# Altium schematic symbol library Resistors.SchLib: 221 symbols (part 3 of 3)
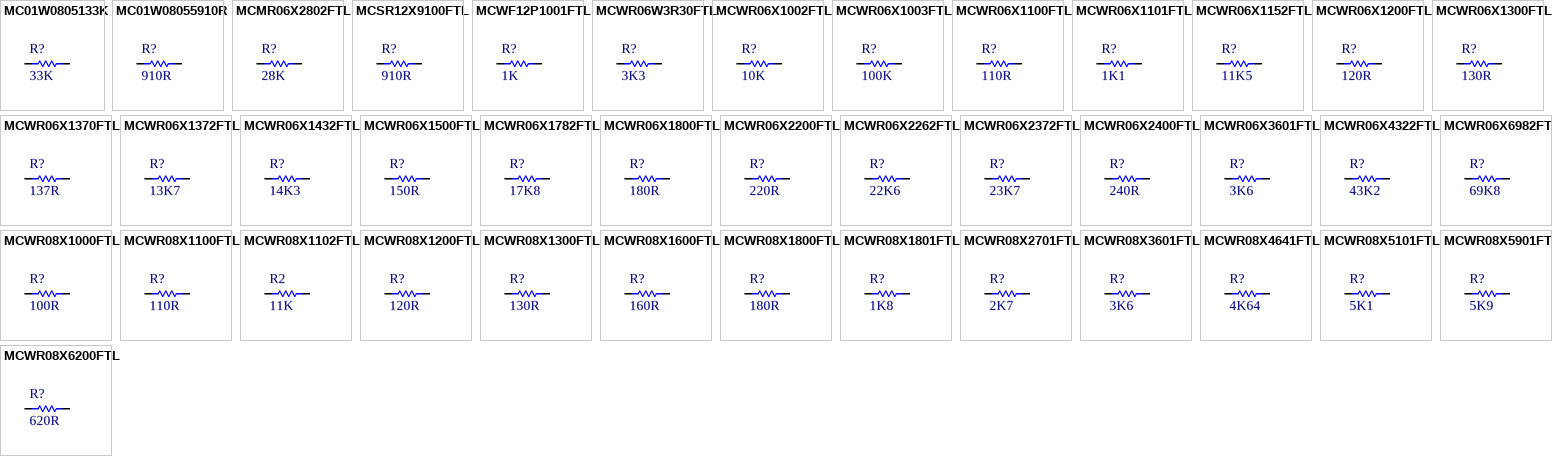
[diagram p7: symbols MC01W0805133K to MCWR08X6200FTL]

## MCWR08X4641FTL
designator R?, comment 4K64
RES 4K64, ±1%, 125mW, 150V, 0805 [2012 Metric], Thick Film; Manufacturer: MULTICOMP PRO; Manufacturer Part Number: MCWR08X4641FTL; Temperature Coefficient: ± 100ppm/°C; Value: 4K64; Supplier 1: Farnell; Supplier Part Number 1: 2447671; Tollerance: ± 1%; Power: 125mW; Voltage: 150V; Package: 0805 [2012 Metric]; Part Type: Thick Film; ComponentLink1Description: Datasheet; ComponentLink1URL: https://lt.farnell.com/multicomp-pro/mcwr08x4641ftl/res-4k64-1-0-125w-thick-film/dp/2447671?st=res%204.64k,%20±1%25,%20125mw,%20150v,%200805%20[2012%20metric],%20thick%20film; Mounting: SMD
footprint RESC2012N (Chip Resistor, Body 2.0x1.3mm, IPC Medium Density)
pins: 1, 2
1 alternate drawing of the same symbol

## MCWR08X5101FTL
designator R?, comment 5K1
RES 5K1, ±1%, 125mW, 0805 [2012 Metric], Thick Film; Manufacturer: MULTICOMP PRO; Manufacturer Part Number: MCWR08X5101FTL; Voltage: 150V; Temperature Coefficient: ± 100ppm/°C; Value: 5K1; Supplier 1: Farnell; Supplier Part Number 1: 2447692; Tolerance: ± 1%; Power: 125mW; Package: 0805 [2012 Metric]; Part Type: Thick Film; ComponentLink1Description: Datasheet; ComponentLink1URL: http://www.farnell.com/datasheets/2563624.pdf; Mounting: SMD
footprint RESC2012N (Chip Resistor, Body 2.0x1.3mm, IPC Medium Density)
pins: 1, 2
1 alternate drawing of the same symbol

## MCWR08X5901FTL
designator R?, comment 5K9
RES 5K9, ±1%, 125mW, 150V, 0805 [2012 Metric], Thick Film; Manufacturer: MULTICOMP PRO; Manufacturer Part Number: MCWR08X5901FTL; Temperature Coefficient: 100ppm/°C; Value: 5K9; Supplier 1: Farnell; Supplier Part Number 1: 2695076; Tollerance: 1%; Power: 125mW; Voltage: 150V; Package: 0805 [2012 Metric]; Part Type: General Purpose; ComponentLink1Description: Datasheet; ComponentLink1URL: https://lt.farnell.com/multicomp/mcwr08x5901ftl/res-5k9-1-0-125w-0805-thick-film/dp/2695076?st=res%205k9,%20±1%25,%20125mw,%20150v,%200805%20[2012%20metric],%20thick%20film; Mounting: SMD
footprint RESC2012N (Chip Resistor, Body 2.0x1.3mm, IPC Medium Density)
pins: 1, 2
1 alternate drawing of the same symbol

## MCWR08X6200FTL
designator R?, comment 620R
RES 620R, ±1%, 125mW, 150V, 0805 [2012 Metric], Thick Film; Manufacturer: MULTICOMP PRO; Manufacturer Part Number: MCWR08X6200FTL; Temperature Coefficient: ± 100ppm/°C; Value: 620R; Supplier 1: Farnell; Supplier Part Number 1: 2447700; Tolerance: ± 1%; Power: 125mW; Voltage: 150V; Package: 0805 [2012 Metric]; Part Type: Thick Film; ComponentLink1Description: Datasheet; ComponentLink1URL: http://www.farnell.com/datasheets/2563624.pdf; Mounting: SMD
footprint RESC2012N (Chip Resistor, Body 2.0x1.3mm, IPC Medium Density)
pins: 1, 2
1 alternate drawing of the same symbol

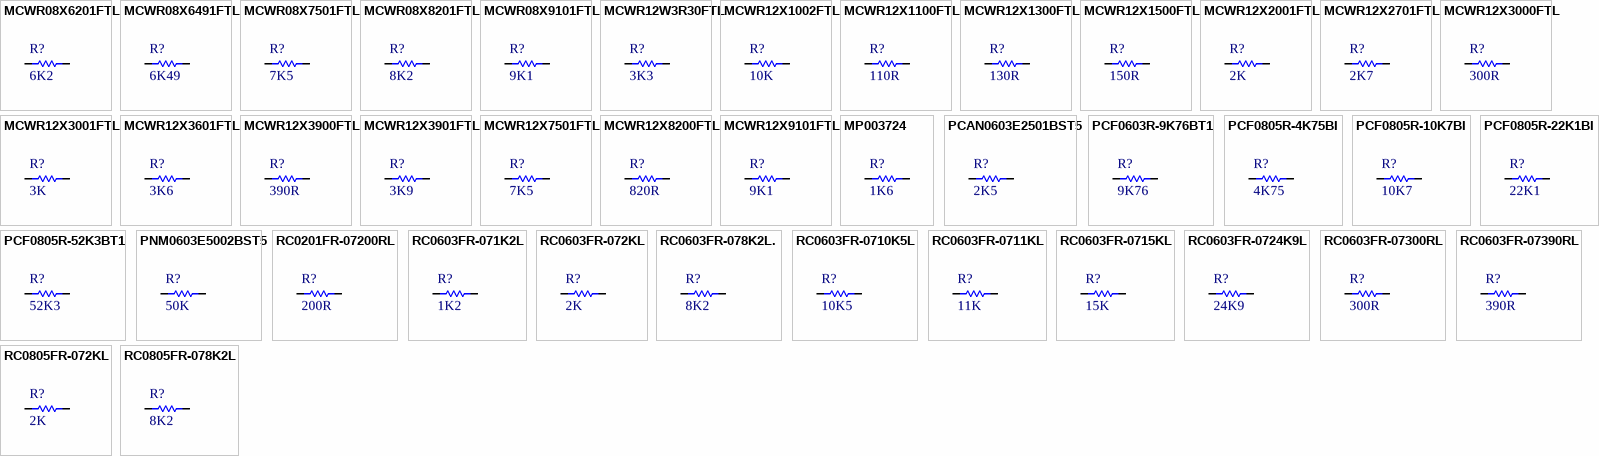
[diagram p4: symbols MCWR08X6201FTL to RC0805FR-078K2L]

## MCWR08X6201FTL
designator R?, comment 6K2
RES 6K2, ±1%, 125mW, 150V, 0805 [2012 Metric], Thick Film; Manufacturer: MULTICOMP PRO; Manufacturer Part Number: MCWR08X6201FTL; Temperature Coefficient: ± 100ppm/°C; Value: 6K2; Supplier 1: Farnell; Supplier Part Number 1: 2447709; Tolerance: ± 1%; Power: 125mW; Voltage: 150V; Package: 0805 [2012 Metric]; Part Type: Thick Film; ComponentLink1Description: Datasheet; ComponentLink1URL: http://www.farnell.com/datasheets/2563624.pdf; Mounting: SMD
footprint RESC2012N (Chip Resistor, Body 2.0x1.3mm, IPC Medium Density)
pins: 1, 2
1 alternate drawing of the same symbol

## MCWR08X6491FTL
designator R?, comment 6K49
RES 6K49, ±1%, 125mW, 150V, 0805 [2012 Metric], Thick Film; Manufacturer: MULTICOMP PRO; Manufacturer Part Number: MCWR08X6491FTL; Temperature Coefficient: ± 100ppm/°C; Value: 6K49; Supplier 1: Farnell; Supplier Part Number 1: 2447710; Tollerance: ± 1%; Power: 125mW; Voltage: 150V; Package: 0805 [2012 Metric]; Part Type: Thick Film; ComponentLink1Description: Datasheet; ComponentLink1URL: https://lt.farnell.com/multicomp-pro/mcwr08x6491ftl/res-6k49-1-0-125w-thick-film/dp/2447710RL?st=res%206.49k,%20±1%25,%20125mw,%20150v,%200805%20[2012%20metric],%20thick%20film; Mounting: SMD
footprint RESC2012N (Chip Resistor, Body 2.0x1.3mm, IPC Medium Density)
pins: 1, 2
1 alternate drawing of the same symbol

## MCWR08X7501FTL
designator R?, comment 7K5
RES 7K5, ±1%, 125mW, 150V, 0805 [2012 Metric], Thick Film; Manufacturer: MULTICOMP PRO; Manufacturer Part Number: MCWR08X7501FTL; Temperature Coefficient: ± 100ppm/°C; Value: 7K5; Supplier 1: Farnell; Supplier Part Number 1: 2447722; Tolerance: ± 1%; Power: 125mW; Voltage: 150V; Package: 0805 [2012 Metric]; Part Type: Thick Film; ComponentLink1Description: Datasheet; ComponentLink1URL: http://www.farnell.com/datasheets/2563624.pdf; Mounting: SMD
footprint RESC2012N (Chip Resistor, Body 2.0x1.3mm, IPC Medium Density)
pins: 1, 2
1 alternate drawing of the same symbol

## MCWR08X8201FTL
designator R?, comment 8K2
RES 8K2, ±1%, 125mW, 150V, 0805 [2012 Metric], Thick Film; Manufacturer: multicompPro; Manufacturer Part Number: MCWR08X8201FTL; Temperature Coefficient: ±100ppm/°C; Value: 8K2; Supplier 1: Farnell; Supplier Part Number 1: 2447732; Tolerance: ± 1%; Power: 125mW; Voltage: 150V; Package: 0805 [2012 Metric]; Part Type: Thick Film; ComponentLink1Description: Datasheet; ComponentLink1URL: https://lt.farnell.com/panasonic/erjp06f1002v/res-10k-1-0-5w-0805-thick-film/dp/1750767; Mounting: SMD
footprint RESC2012N (Chip Resistor, Body 2.0x1.3mm, IPC Medium Density)
pins: 1, 2
1 alternate drawing of the same symbol

## MCWR08X9101FTL
designator R?, comment 9K1
RES 9K1, ±1%, 125mW, 150V, 0805 [2012 Metric], Thick Film; Manufacturer: MULTICOMP PRO; Manufacturer Part Number: MCWR08X9101FTL; Temperature Coefficient: ± 100ppm/°C; Value: 9K1; Supplier 1: Farnell; Supplier Part Number 1: 2447739; Tolerance: ± 1%; Power: 125mW; Voltage: 150V; Package: 0805 [2012 Metric]; Part Type: Thick Film; ComponentLink1Description: Datasheet; ComponentLink1URL: http://www.farnell.com/datasheets/2563624.pdf; Mounting: SMD
footprint RESC2012N (Chip Resistor, Body 2.0x1.3mm, IPC Medium Density)
pins: 1, 2
1 alternate drawing of the same symbol

## MCWR12W3R30FTL
designator R?, comment 3K3
RES 3K3, ±1%, 250mW, 200V, 1206 [3216 Metric], Thick Film; Manufacturer: MULTICOMP PRO; Manufacturer Part Number: MCWR12W3R30FTL; Temperature Coefficient: ± 200ppm/°C; Value: 3K3; Supplier 1: Farnell; Supplier Part Number 1: 2695112; Tolerance: ± 1%; Power: 250mW; Voltage: 200V; Package: 1206 [3216 Metric]; Part Type: Thick Film; ComponentLink1Description: Datasheet; ComponentLink1URL: http://www.farnell.com/datasheets/2189593.pdf; Mounting: SMD
footprint RESC3216N (Chip Resistor, Body 3.2x1.6mm, IPC Medium Density)
pins: 1, 2
1 alternate drawing of the same symbol

## MCWR12X1002FTL
designator R?, comment 10K
RES 10K, ±1%, 250mW, 200V, 1206 [3216 Metric], Thick Film; Manufacturer: MULTICOMP PRO; Manufacturer Part Number: MCWR12X1002FTL; Temperature Coefficient: ± 100ppm/°C; Value: 10K; Supplier 1: Farnell; Supplier Part Number 1: 2447455; Tolerance: ± 1%; Power: 250mW; Voltage: 200V; Package: 1206 [3216 Metric]; Part Type: Thick Film; ComponentLink1Description: Datasheet; ComponentLink1URL: http://www.farnell.com/datasheets/2563624.pdf; Mounting: SMD
footprint RESC3216N (Chip Resistor, Body 3.2x1.6mm, IPC Medium Density)
pins: 1, 2
1 alternate drawing of the same symbol

## MCWR12X1100FTL
designator R?, comment 110R
RES 110R, ±1%, 250mW, 200V, 1206 [3216 Metric], Thick Film; Manufacturer: MULTICOMP PRO; Manufacturer Part Number: MCWR12X1100FTL; Temperature Coefficient: ± 100ppm/°C; Value: 110R; Supplier 1: Farnell; Supplier Part Number 1: 2447459; Tolerance: ± 1%; Power: 250mW; Voltage: 200V; Package: 1206 [3216 Metric]; Part Type: Thick Film; ComponentLink1Description: Datasheet; ComponentLink1URL: http://www.farnell.com/datasheets/2563624.pdf; Mounting: SMD
footprint RESC3216N (Chip Resistor, Body 3.2x1.6mm, IPC Medium Density)
pins: 1, 2
1 alternate drawing of the same symbol

## MCWR12X1300FTL
designator R?, comment 130R
RES 130R, ±1%, 200mW, 200V, 1206 [3216 Metric], Thick Film; Manufacturer: MULTICOMP PRO; Manufacturer Part Number: MCWR12X1300FTL; Power: 250mW; Temperature Coefficient: ± 100ppm/°C; Value: 130R; Supplier 1: Farnell; Supplier Part Number 1: 2447464; Tolerance: ± 1%; Voltage: 200V; Package: 1206 [3216 Metric]; Part Type: Thick Film; ComponentLink1Description: Datasheet; ComponentLink1URL: http://www.farnell.com/datasheets/2563624.pdf; Mounting: SMD
footprint RESC3216N (Chip Resistor, Body 3.2x1.6mm, IPC Medium Density)
pins: 1, 2
1 alternate drawing of the same symbol

## MCWR12X1500FTL
designator R?, comment 150R
RES 150R, ±1%, 250mW, 200V, 1206 [3216 Metric], Thick Film; Manufacturer: MULTICOMP PRO; Manufacturer Part Number: MCWR12X1500FTL; Temperature Coefficient: ± 100ppm/°C; Value: 150R; Supplier 1: Farnell; Supplier Part Number 1: 2447466; Tolerance: ± 1%; Power: 250mW; Voltage: 200V; Package: 1206 [3216 Metric]; Part Type: Thick Film; ComponentLink1Description: Datasheet; ComponentLink1URL: http://www.farnell.com/datasheets/2563624.pdf; Mounting: SMD
footprint RESC3216N (Chip Resistor, Body 3.2x1.6mm, IPC Medium Density)
pins: 1, 2
1 alternate drawing of the same symbol

## MCWR12X2001FTL
designator R?, comment 2K
RES 2K, ±1%, 250mW, 200V, 1206 [3216 Metric], Thick Film; Manufacturer: MULTICOMP PRO; Manufacturer Part Number: MCWR12X2001FTL; Temperature Coefficient: ± 100ppm/°C; Value: 2K; Supplier 1: Farnell; Supplier Part Number 1: 2447495; Tolerance: ± 1%; Power: 250mW; Voltage: 200V; Package: 1206 [3216 Metric]; Part Type: Thick Film; ComponentLink1Description: Datasheet; ComponentLink1URL: http://www.farnell.com/datasheets/2563624.pdf; Mounting: SMD
footprint RESC3216N (Chip Resistor, Body 3.2x1.6mm, IPC Medium Density)
pins: 1, 2
1 alternate drawing of the same symbol

## MCWR12X2701FTL
designator R?, comment 2K7
RES 2K7, ±1%, 250mW, 200V, 1206 [3216 Metric], Thick Film; Manufacturer: MULTICOMP PRO; Manufacturer Part Number: MCWR12X2701FTL; Temperature Coefficient: ± 100ppm/°C; Value: 2K7; Supplier 1: Farnell; Supplier Part Number 1: 2447497; Tolerance: ± 1%; Power: 250mW; Voltage: 200V; Package: 1206 [3216 Metric]; Part Type: Thick Film; ComponentLink1Description: Datasheet; ComponentLink1URL: http://www.farnell.com/datasheets/2563624.pdf; Mounting: SMD
footprint RESC3216N (Chip Resistor, Body 3.2x1.6mm, IPC Medium Density)
pins: 1, 2
1 alternate drawing of the same symbol

## MCWR12X3000FTL
designator R?, comment 300R
RES 300R, ±1%, 250mW, 200V, 1206 [3216 Metric], Thick Film; Manufacturer: MULTICOMP PRO; Manufacturer Part Number: MCWR12X3000FTL; Temperature Coefficient: ± 100ppm/°C; Value: 300R; Supplier 1: Farnell; Supplier Part Number 1: 2447501; Tolerance: ± 1%; Power: 250mW; Voltage: 200V; Package: 1206 [3216 Metric]; Part Type: Thick Film; ComponentLink1Description: Datasheet; ComponentLink1URL: http://www.farnell.com/datasheets/2563624.pdf; Mounting: SMD
footprint RESC3216N (Chip Resistor, Body 3.2x1.6mm, IPC Medium Density)
pins: 1, 2
1 alternate drawing of the same symbol

## MCWR12X3001FTL
designator R?, comment 3K
RES 3K, ±1%, 250mW, 200V, 1206 [3216 Metric], Thick Film; Manufacturer: MULTICOMP PRO; Manufacturer Part Number: MCWR12X3001FTL; Temperature Coefficient: ± 100ppm/°C; Value: 3K; Supplier 1: Farnell; Supplier Part Number 1: 2447513; Tolerance: ± 1%; Power: 250mW; Voltage: 200V; Package: 1206 [3216 Metric]; Part Type: Thick Film; ComponentLink1Description: Datasheet; ComponentLink1URL: http://www.farnell.com/datasheets/2563624.pdf; Mounting: SMD
footprint RESC3216N (Chip Resistor, Body 3.2x1.6mm, IPC Medium Density)
pins: 1, 2
1 alternate drawing of the same symbol

## MCWR12X3601FTL
designator R?, comment 3K6
RES 3K6, ±1%, 250mW, 200V, 1206 [3216 Metric], Thick Film; Manufacturer: MULTICOMP PRO; Manufacturer Part Number: MCWR12X3601FTL; Temperature Coefficient: ± 100ppm/°C; Value: 3K6; Supplier 1: Farnell; Supplier Part Number 1: 2447515; Tolerance: ± 1%; Power: 250mW; Voltage: 200V; Package: 1206 [3216 Metric]; Part Type: Thick Film; ComponentLink1Description: Datasheet; ComponentLink1URL: http://www.farnell.com/datasheets/2563624.pdf; Mounting: SMD
footprint RESC3216N (Chip Resistor, Body 3.2x1.6mm, IPC Medium Density)
pins: 1, 2
1 alternate drawing of the same symbol

## MCWR12X3900FTL
designator R?, comment 390R
RES 390R, ±1%, 250mW, 1206 [3216 Metric], Thick Film; Manufacturer: MULTICOMP PRO; Manufacturer Part Number: MCWR12X3900FTL; Voltage: 200V; Temperature Coefficient: ± 100ppm/°C; Value: 390R; Supplier 1: Farnell; Supplier Part Number 1: 2447510; Tolerance: ± 1%; Power: 250mW; Package: 1206 [3216 Metric]; Part Type: Thick Film; ComponentLink1Description: Datasheet; ComponentLink1URL: http://www.farnell.com/datasheets/2563624.pdf; Mounting: SMD
footprint RESC3216N (Chip Resistor, Body 3.2x1.6mm, IPC Medium Density)
pins: 1, 2
1 alternate drawing of the same symbol

## MCWR12X3901FTL
designator R?, comment 3K9
RES 3K9, ±1%, 250mW, 200V, 1206 [3216 Metric], Thick Film; Manufacturer: MULTICOMP PRO; Manufacturer Part Number: MCWR12X3901FTL; Temperature Coefficient: ± 100ppm/°C; Value: 3K9; Supplier 1: Farnell; Supplier Part Number 1: 2447516; Tolerance: ± 1%; Power: 250mW; Voltage: 200V; Package: 1206 [3216 Metric]; Part Type: Thick Film; ComponentLink1Description: Datasheet; ComponentLink1URL: http://www.farnell.com/datasheets/2563624.pdf; Mounting: SMD
footprint RESC3216N (Chip Resistor, Body 3.2x1.6mm, IPC Medium Density)
pins: 1, 2
1 alternate drawing of the same symbol

## MCWR12X7501FTL
designator R?, comment 7K5
RES 7K5, ±1%, 250mW, 200V, 1206 [3216 Metric], Thick Film; Manufacturer: MULTICOMP PRO; Manufacturer Part Number: MCWR12X7501FTL; Temperature Coefficient: ± 100ppm/°C; Value: 7K5; Supplier 1: Farnell; Supplier Part Number 1: 2447543; Tolerance: ± 1%; Power: 250mW; Voltage: 200V; Package: 1206 [3216 Metric]; Part Type: Thick Film; ComponentLink1Description: Datasheet; ComponentLink1URL: http://www.farnell.com/datasheets/2563624.pdf; Mounting: SMD
footprint RESC3216N (Chip Resistor, Body 3.2x1.6mm, IPC Medium Density)
pins: 1, 2
1 alternate drawing of the same symbol

## MCWR12X8200FTL
designator R?, comment 820R
RES 820R, ±1%, 250mW, 200V, 1206 [3216 Metric], Thick Film; Manufacturer: MULTICOMP PRO; Manufacturer Part Number: MCWR12X8200FTL; Temperature Coefficient: ± 100ppm/°C; Value: 820R; Supplier 1: Farnell; Supplier Part Number 1: 2447544; Tolerance: ± 1%; Power: 250mW; Voltage: 200V; Package: 1206 [3216 Metric]; Part Type: Thick Film; ComponentLink1Description: Datasheet; ComponentLink1URL: http://www.farnell.com/datasheets/2563624.pdf; Mounting: SMD
footprint RESC3216N (Chip Resistor, Body 3.2x1.6mm, IPC Medium Density)
pins: 1, 2
1 alternate drawing of the same symbol

## MCWR12X9101FTL
designator R?, comment 9K1
RES 9K1, ±1%, 250mW, 200V, 1206 [3216 Metric], Thick Film; Manufacturer: MULTICOMP PRO; Manufacturer Part Number: MCWR12X9101FTL; Temperature Coefficient: ± 100ppm/°C; Value: 9K1; Supplier 1: Farnell; Supplier Part Number 1: 2447549; Tolerance: ± 1%; Power: 250mW; Voltage: 200V; Package: 1206 [3216 Metric]; Part Type: Thick Film; ComponentLink1Description: Datasheet; ComponentLink1URL: http://www.farnell.com/datasheets/2563624.pdf; Mounting: SMD
footprint RESC3216N (Chip Resistor, Body 3.2x1.6mm, IPC Medium Density)
pins: 1, 2
1 alternate drawing of the same symbol

## MP003724
designator R?, comment 1K6
RES 1K6, ±1%, 250mW, 200V, 1206 [3216 Metric], Thick Film; Manufacturer: MULTICOMP PRO; Manufacturer Part Number: MP003724; Temperature Coefficient: ± 100ppm/°C; Value: 1K6; Supplier 1: Farnell; Supplier Part Number 1: 3392921; Tolerance: ± 1%; Power: 250mW; Voltage: 200V; Package: 1206 [3216 Metric]; Part Type: Thick Film; ComponentLink1Description: Datasheet; ComponentLink1URL: http://www.farnell.com/datasheets/2921245.pdf; Mounting: SMD
footprint RESC3216N (Chip Resistor, Body 3.2x1.6mm, IPC Medium Density)
pins: 1, 2
1 alternate drawing of the same symbol

## PCAN0603E2501BST5
designator R?, comment 2K5
RES 2K5, ±0.1%, 500mW, 0603 [1608 Metric], Thin Film; Manufacturer: VISHAY; Manufacturer Part Number: PCAN0603E2501BST5; Power: 100mW; Voltage: 75V; Temperature Coefficient: ± 25ppm/°C; Value: 2K5; Supplier 1: Farnell; Supplier Part Number 1: 3596737; Tolerance: ± 0.1%; Package: 0603 [1608 Metric]; Part Type: Thin Film; ComponentLink1Description: Datasheet; ComponentLink1URL: http://www.farnell.com/datasheets/3169822.pdf; Mounting: SMD
footprint RESC1608N (Chip Resistor, Body 1.6x0.8mm, IPC Medium Density)
pins: 1, 2
1 alternate drawing of the same symbol

## PCF0603R-9K76BT1
designator R?, comment 9K76
RES 9K76, ±1%, 62.5mW, 50V, 0603 [1608 Metric], Thick Film; Manufacturer: TT ELECTRONICS / WELWYN; Manufacturer Part Number: PCF0603R-9K76BT1; Temperature Coefficient: ± 25ppm/K; Value: 9K76; Supplier 1: Farnell; Supplier Part Number 1: 1160358; Tolerance: ± 1%; Power: 62.5mW; Voltage: 50V; Package: 0603 [1608 Metric]; Part Type: Thin Film; ComponentLink1Description: Datasheet; ComponentLink1URL: http://www.farnell.com/datasheets/2710384.pdf; Mounting: SMD
footprint RESC1608N (Chip Resistor, Body 1.6x0.8mm, IPC Medium Density)
pins: 1, 2
1 alternate drawing of the same symbol

## PCF0805R-4K75BI
designator R?, comment 4K75
RES 4K75, ±0.1%, 100mW, 100V, 0805 [2012 Metric], Thin Film; Manufacturer: TT ELECTRONICS / WELWYN; Manufacturer Part Number: PCF0805R-4K75BI; Temperature Coefficient: ± 10ppm/°C; Value: 4K75; Supplier 1: Farnell; Supplier Part Number 1: 1160179; Tolerance: ± 0.1%; Power: 100mW; Voltage: 100V; Package: 0805 [2012 Metric]; Part Type: Thin Film; ComponentLink1Description: Datasheet; ComponentLink1URL: http://www.farnell.com/datasheets/2710384.pdf; Mounting: SMD
footprint RESC2012N (Chip Resistor, Body 2.0x1.3mm, IPC Medium Density)
pins: 1, 2
1 alternate drawing of the same symbol

## PCF0805R-10K7BI
designator R?, comment 10K7
RES 10K7, ±0.1%, 100mW, 100V, 0805 [2012 Metric], Thin Film; Manufacturer: TT ELECTRONICS / WELWYN; Manufacturer Part Number: PCF0805R-10K7BI; Temperature Coefficient: ± 25ppm/°C; Value: 10K7; Supplier 1: Farnell; Supplier Part Number 1: 1160207; Tolerance: ± 0.1%; Power: 100mW; Voltage: 100V; Package: 0805 [2012 Metric]; Part Type: Thin Film; ComponentLink1Description: Datasheet; ComponentLink1URL: http://www.farnell.com/datasheets/2710384.pdf; Mounting: SMD
footprint RESC2012N (Chip Resistor, Body 2.0x1.3mm, IPC Medium Density)
pins: 1, 2
1 alternate drawing of the same symbol

## PCF0805R-22K1BI
designator R?, comment 22K1
RES 22K1, ±0.1%, 100mW, 100V, 0805 [2012 Metric], Thin Film; Manufacturer: TT ELECTRONICS / WELWYN; Manufacturer Part Number: PCF0805R-22K1BI; Temperature Coefficient: ± 25ppm/°C; Value: 22K1; Supplier 1: Farnell; Supplier Part Number 1: 1160222; Tolerance: ± 0.1%; Power: 100mW; Voltage: 100V; Package: 0805 [2012 Metric]; Part Type: Thin Film; ComponentLink1Description: Datasheet; ComponentLink1URL: http://www.farnell.com/datasheets/2710384.pdf; Mounting: SMD
footprint RESC2012N (Chip Resistor, Body 2.0x1.3mm, IPC Medium Density)
pins: 1, 2
1 alternate drawing of the same symbol

## PCF0805R-52K3BT1
designator R?, comment 52K3
RES 52K3, ±1%, 100mW, 100V, 0805 [2012 Metric], Thick Film; Manufacturer: TT ELECTRONICS / WELWYN; Manufacturer Part Number: PCF0805R-52K3BT1; Temperature Coefficient: ± 25ppm/°C; Value: 52K3; Supplier 1: Farnell; Supplier Part Number 1: 1353285; Tolerance: ± 1%; Power: 100mW; Voltage: 100V; Package: 0805 [2012 Metric]; Part Type: Thin Film; ComponentLink1Description: Datasheet; ComponentLink1URL: http://www.farnell.com/datasheets/2710384.pdf; Mounting: SMD
footprint RESC2012N (Chip Resistor, Body 2.0x1.3mm, IPC Medium Density)
pins: 1, 2
1 alternate drawing of the same symbol

## PNM0603E5002BST5
designator R?, comment 50K
RES 50K, ±0.1%, 150mW, 75V, 0603 [1608 Metric], Thin Film; Manufacturer: VISHAY; Manufacturer Part Number: PNM0603E5002BST5; Temperature Coefficient: ± 25ppm/°C; Value: 50K; Supplier 1: Farnell; Supplier Part Number 1: 1857219; Tollerance: ± 0.1%; Power: 150mW; Voltage: 75V; Package: 0603 [1608 Metric]; Part Type: Thin Film; ComponentLink1Description: Datasheet; ComponentLink1URL: http://www.farnell.com/datasheets/2050300.pdf; Mounting: SMD
footprint RESC1608N (Chip Resistor, Body 1.6x0.8mm, IPC Medium Density)
pins: 1, 2
1 alternate drawing of the same symbol

## RC0201FR-07200RL
designator R?, comment 200R
RES 200R, ±1%, 50mW, 25V, 0603 [1608 Metric], Thick Film; Manufacturer: YAGEO; Manufacturer Part Number: RC0201FR-07200RL; Temperature Coefficient: ± 200ppm/°C; Value: 200R; Supplier 1: Farnell; Supplier Part Number 1: 3495422; Tolerance: ± 1%; Power: 50mW; Voltage: 25V; Package: 0603 [1608 Metric]; Part Type: Thick Film; ComponentLink1Description: Datasheet; ComponentLink1URL: http://www.farnell.com/datasheets/3046031.pdf; Mounting: SMD
footprint RESC1608N (Chip Resistor, Body 1.6x0.8mm, IPC Medium Density)
pins: 1, 2
1 alternate drawing of the same symbol

## RC0603FR-071K2L
designator R?, comment 1K2
RES 1K2, ±1%, 125mW, 75V, 0603 [1608 Metric], Thick Film; Manufacturer: YAGEO; Manufacturer Part Number: RC0603FR-071K2L; Power: 100mW; Temperature Coefficient: ± 150ppm/°C; Value: 1K2; Supplier 1: Farnell; Supplier Part Number 1: 2693663; Tolerance: ± 1%; Voltage: 75V; Package: 0603 [1608 Metric]; Part Type: Thick Film; ComponentLink1Description: Datasheet; ComponentLink1URL: http://www.farnell.com/datasheets/1868787.pdf; Mounting: SMD
footprint RESC1608N (Chip Resistor, Body 1.6x0.8mm, IPC Medium Density)
pins: 1, 2
1 alternate drawing of the same symbol

## RC0603FR-072KL
designator R?, comment 2K
RES 2K, ±1%, 100mW, 75V, 0603 [1608 Metric], Thick Film; Manufacturer: YAGEO; Manufacturer Part Number: RC0603FR-072KL; Temperature Coefficient: ± 100ppm/°C; Value: 2K; Supplier 1: Farnell; Supplier Part Number 1: 3495801; Tolerance: ± 1%; Power: 100mW; Voltage: 75V; Package: 0603 [1608 Metric]; Part Type: Thick Film; ComponentLink1Description: Datasheet; ComponentLink1URL: http://www.farnell.com/datasheets/3046031.pdf; Mounting: SMD
footprint RESC1608N (Chip Resistor, Body 1.6x0.8mm, IPC Medium Density)
pins: 1, 2
1 alternate drawing of the same symbol

## RC0603FR-078K2L.
designator R?, comment 8K2
RES 8K2, ±1%, 100mW, 75, 0603 [1608 Metric], Thick Film; Manufacturer: YAGEO; Manufacturer Part Number: RC0603FR-078K2L.; Voltage: 75V; Temperature Coefficient: ± 100ppm/°C; Value: 8K2; Supplier 1: Farnell; Supplier Part Number 1: 9238590; Tolerance: ± 1%; Power: 100mW; Package: 0603 [1608 Metric]; Part Type: Thick Film; ComponentLink1Description: Datasheet; ComponentLink1URL: http://www.farnell.com/datasheets/2167052.pdf; Mounting: SMD
footprint RESC1608N (Chip Resistor, Body 1.6x0.8mm, IPC Medium Density)
pins: 1, 2
1 alternate drawing of the same symbol

## RC0603FR-0710K5L
designator R?, comment 10K5
RES 10K5, ±1%, 100mW, 75V, 0603 [1608 Metric], Thick Film; Manufacturer: YAGEO; Manufacturer Part Number: RC0603FR-0710K5L; Temperature Coefficient: ± 100ppm/°C; Value: 10K5; Supplier 1: Farnell; Supplier Part Number 1: 3495722; Tolerance: ± 1%; Power: 100mW; Voltage: 75V; Package: 0603 [1608 Metric]; Part Type: Thick Film; ComponentLink1Description: Datasheet; ComponentLink1URL: http://www.farnell.com/datasheets/3046031.pdf; Mounting: SMD
footprint RESC1608N (Chip Resistor, Body 1.6x0.8mm, IPC Medium Density)
pins: 1, 2
1 alternate drawing of the same symbol

## RC0603FR-0711KL
designator R?, comment 11K
RES 11K, ±1%, 100mW, 75V, 0603 [1608 Metric], Thick Film; Manufacturer: YAGEO; Manufacturer Part Number: RC0603FR-0711KL; Temperature Coefficient: ± 100ppm/°C; Value: 11K; Supplier 1: Farnell; Supplier Part Number 1: 3495727; Tolerance: ± 1%; Power: 100mW; Voltage: 75V; Package: 0603 [1608 Metric]; Part Type: Thick Film; ComponentLink1Description: Datasheet; ComponentLink1URL: http://www.farnell.com/datasheets/3046031.pdf; Mounting: SMD
footprint RESC1608N (Chip Resistor, Body 1.6x0.8mm, IPC Medium Density)
pins: 1, 2
1 alternate drawing of the same symbol

## RC0603FR-0715KL
designator R?, comment 15K
RES 15K, ±1%, 100mW, 0603 [1608 Metric], Thick Film; Manufacturer: YAGEO; Manufacturer Part Number: RC0603FR-0715KL; Voltage: 75V; Temperature Coefficient: ± 100ppm/°C; Value: 15K; Supplier 1: Farnell; Supplier Part Number 1: 3495741; Tolerance: ± 1%; Power: 100mW; Package: 0603 [1608 Metric]; Part Type: Thick Film; ComponentLink1Description: Datasheet; ComponentLink1URL: http://www.farnell.com/datasheets/3046031.pdf; Mounting: SMD
footprint RESC1608N (Chip Resistor, Body 1.6x0.8mm, IPC Medium Density)
pins: 1, 2
1 alternate drawing of the same symbol

## RC0603FR-0724K9L
designator R?, comment 24K9
RES 24K9, ±1%, 100mW, 75V, 0603 [1608 Metric], Thick Film; Manufacturer: YAGEO; Manufacturer Part Number: RC0603FR-0724K9L; Temperature Coefficient: ± 100ppm/°C; Value: 24K9; Supplier 1: Farnell; Supplier Part Number 1: 3495781; Tolerance: ± 1%; Power: 100mW; Voltage: 75V; Package: 0603 [1608 Metric]; Part Type: Thick Film; ComponentLink1Description: Datasheet; ComponentLink1URL: http://www.farnell.com/datasheets/3046031.pdf; Mounting: SMD
footprint RESC1608N (Chip Resistor, Body 1.6x0.8mm, IPC Medium Density)
pins: 1, 2
1 alternate drawing of the same symbol

## RC0603FR-07300RL
designator R?, comment 300R
RES 300R, ±1%, 100mW, 75V, 0603 [1608 Metric], Thick Film; Manufacturer: Yageo; Manufacturer Part Number: RC0603FR-07300RL; Temperature Coefficient: ± 100ppm/°C; Value: 300R; Supplier 1: Farnell; Supplier Part Number 1: 3495806; Tolerance: ± 1%; Power: 100mW; Voltage: 75V; Package: 0603 [1608 Metric]; Part Type: Thick Film; ComponentLink1Description: Datasheet; ComponentLink1URL: http://www.farnell.com/datasheets/3046031.pdf; Mounting: SMD
footprint RESC1608N (Chip Resistor, Body 1.6x0.8mm, IPC Medium Density)
pins: 1, 2
1 alternate drawing of the same symbol

## RC0603FR-07390RL
designator R?, comment 390R
RES 390R, ±1%, 100mW, 0603 [1608 Metric], Thick Film; Manufacturer: YAGEO; Manufacturer Part Number: RC0603FR-07390RL; Voltage: 75V; Temperature Coefficient: ± 100ppm/°C; Value: 390R; Supplier 1: Farnell; Supplier Part Number 1: 9238433; Tolerance: ± 1%; Power: 100mW; Package: 0603 [1608 Metric]; Part Type: Thick Film; ComponentLink1Description: Datasheet; ComponentLink1URL: http://www.farnell.com/datasheets/1868787.pdf; Mounting: SMD
footprint RESC1608N (Chip Resistor, Body 1.6x0.8mm, IPC Medium Density)
pins: 1, 2
1 alternate drawing of the same symbol

## RC0805FR-072KL
designator R?, comment 2K
RES 2K, ±1%, 125mW, 150V, 0805 [2012 Metric], Thick Film; Manufacturer: YAGEO; Manufacturer Part Number: RC0805FR-072KL; Temperature Coefficient: ± 100ppm/°C; Value: 2K; Supplier 1: Farnell; Supplier Part Number 1: 3496020; Tolerance: ± 1%; Power: 125mW; Voltage: 150V; Package: 0805 [2012 Metric]; Part Type: Thick Film; ComponentLink1Description: Datasheet; ComponentLink1URL: http://www.farnell.com/datasheets/3046031.pdf; Mounting: SMD
footprint RESC2012N (Chip Resistor, Body 2.0x1.3mm, IPC Medium Density)
pins: 1, 2
1 alternate drawing of the same symbol

## RC0805FR-078K2L
designator R?, comment 8K2
RES 8K2, ±1%, 125mW, 150V, 0805 [2012 Metric], Thick Film; Manufacturer: YAGEO; Manufacturer Part Number: RC0805FR-078K2L; Temperature Coefficient: ± 100ppm/°C; Value: 8K2; Supplier 1: Farnell; Supplier Part Number 1: 9237747; Tolerance: ± 1%; Power: 125mW; Voltage: 150V; Package: 0805 [2012 Metric]; Part Type: Thick Film; ComponentLink1Description: Datasheet; ComponentLink1URL: http://www.farnell.com/datasheets/2167052.pdf; Mounting: SMD
footprint RESC2012N (Chip Resistor, Body 2.0x1.3mm, IPC Medium Density)
pins: 1, 2
1 alternate drawing of the same symbol

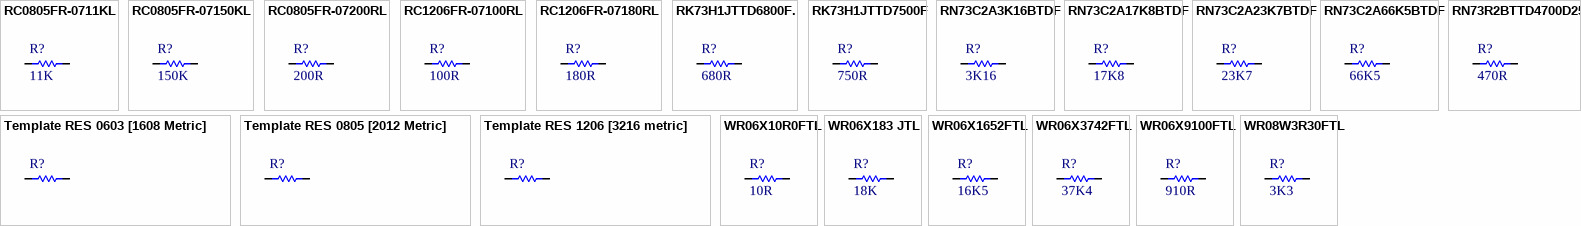
[diagram p5: symbols RC0805FR-0711KL to WR08W3R30FTL]

## RC0805FR-0711KL
designator R?, comment 11K
RES 11K, ±1%, 125mW, 150V, 0805 [2012 Metric], Thick Film; Manufacturer: YAGEO; Manufacturer Part Number: RC0805FR-0711KL; Temperature Coefficient: ± 100ppm/°C; Value: 11K; Supplier 1: Farnell; Supplier Part Number 1: 3495976; Tolerance: ± 1%; Power: 125mW; Voltage: 150V; Package: 0805 [2012 Metric]; Part Type: Thick Film; ComponentLink1Description: Datasheet; ComponentLink1URL: http://www.farnell.com/datasheets/3046031.pdf; Mounting: SMD
footprint RESC2012N (Chip Resistor, Body 2.0x1.3mm, IPC Medium Density)
pins: 1, 2
1 alternate drawing of the same symbol

## RC0805FR-07150KL
designator R?, comment 150K
RES 150K, ±1%, 125mW, 150V, 0805 [2012 Metric], Thick Film; Manufacturer: YAGEO; Manufacturer Part Number: RC0805FR-07150KL; Temperature Coefficient: ± 100ppm/°C; Value: 150K; Supplier 1: Farnell; Supplier Part Number 1: 9237895; Tolerance: ± 1%; Power: 125mW; Voltage: 150V; Package: 0805 [2012 Metric]; Part Type: Thick Film; ComponentLink1Description: Datasheet; ComponentLink1URL: http://www.farnell.com/datasheets/2167052.pdf; Mounting: SMD
footprint RESC2012N (Chip Resistor, Body 2.0x1.3mm, IPC Medium Density)
pins: 1, 2
1 alternate drawing of the same symbol

## RC0805FR-07200RL
designator R?, comment 200R
RES 200R, ±1%, 125mW, 150V, 0805 [2012 Metric], Thick Film; Manufacturer: YAGEO; Manufacturer Part Number: RC0805FR-07200RL; Temperature Coefficient: ± 100ppm/°C; Value: 200R; Supplier 1: Farnell; Supplier Part Number 1: 3495998; Tolerance: ± 1%; Power: 125mW; Voltage: 150V; Package: 0805 [2012 Metric]; Part Type: Thick Film; ComponentLink1Description: Datasheet; ComponentLink1URL: http://www.farnell.com/datasheets/3046031.pdf; Mounting: SMD
footprint RESC2012N (Chip Resistor, Body 2.0x1.3mm, IPC Medium Density)
pins: 1, 2
1 alternate drawing of the same symbol

## RC1206FR-07100RL
designator R?, comment 100R
RES 100R, ±1%, 250mW, 200V, 1206 [3216 Metric], Thick Film; Manufacturer: YAGEO; Manufacturer Part Number: RC1206FR-07100RL; Temperature Coefficient: ± 100ppm/°C; Value: 100R; Supplier 1: Farnell; Supplier Part Number 1: 9240888; Tolerance: ± 1%; Power: 250mW; Voltage: 200V; Package: 1206 [3216 Metric]; Part Type: Thick Film; ComponentLink1Description: Datasheet; ComponentLink1URL: http://www.farnell.com/datasheets/2167052.pdf; Mounting: SMD
footprint RESC3216N (Chip Resistor, Body 3.2x1.6mm, IPC Medium Density)
pins: 1, 2
1 alternate drawing of the same symbol

## RC1206FR-07180RL
designator R?, comment 180R
RES 180R, ±1%, 250 mW, 1206 [3216 Metric], Thick Film; Manufacturer: YAGEO; Manufacturer Part Number: RC1206FR-07180RL; Power: 250mW; Voltage: 200V; Temperature Coefficient: ± 100ppm/°C; Value: 180R; Supplier 1: Farnell; Supplier Part Number 1: 9236775; Tolerance: ± 1%; Package: 1206 [3216 Metric]; Part Type: Thick Film; ComponentLink1Description: Datasheet; ComponentLink1URL: http://www.farnell.com/datasheets/2167052.pdf; Mounting: SMD
footprint RESC3216N (Chip Resistor, Body 3.2x1.6mm, IPC Medium Density)
pins: 1, 2
1 alternate drawing of the same symbol

## RK73H1JTTD6800F.
designator R?, comment 680R
RES 680R, ±1%, 125mW, 75V, 0603 [1608 Metric], Thick Film; Manufacturer: KOA; Manufacturer Part Number: RK73H1JTTD6800F.; Temperature Coefficient: ± 100ppm/K; Value: 680R; Supplier 1: Farnell; Supplier Part Number 1: 3548747; Tolerance: ± 1%; Power: 125mW; Voltage: 75V; Package: 0603 [1608 Metric]; Part Type: Thick Film; ComponentLink1Description: Datasheet; ComponentLink1URL: https://www.koaglobal.com/-/media/Files/KOA_Global/EN/product/commonpdf/rk73h.pdf; Mounting: SMD
footprint RESC1608N (Chip Resistor, Body 1.6x0.8mm, IPC Medium Density)
pins: 1, 2
1 alternate drawing of the same symbol

## RK73H1JTTD7500F
designator R?, comment 750R
RES 750R, ±1%, 125mW, 75V, 0603 [1608 Metric], Thick Film; Manufacturer: KOA; Manufacturer Part Number: RK73H1JTTD7500F; Temperature Coefficient: ± 100ppm/K; Value: 750R; Supplier 1: Farnell; Supplier Part Number 1: 3548755; Tolerance: ± 1%; Power: 125mW; Voltage: 75V; Package: 0603 [1608 Metric]; Part Type: Thick Film; ComponentLink1Description: Datasheet; ComponentLink1URL: https://www.koaglobal.com/-/media/Files/KOA_Global/EN/product/commonpdf/rk73h.pdf; Mounting: SMD
footprint RESC1608N (Chip Resistor, Body 1.6x0.8mm, IPC Medium Density)
pins: 1, 2
1 alternate drawing of the same symbol

## RN73C2A3K16BTDF
designator R?, comment 3K16
RES 3K16, ±0.1%, 150mW, 150V, 0805 [2012 Metric], Thin Film; Manufacturer: TE CONNECTIVITY; Manufacturer Part Number: RN73C2A3K16BTDF; Voltage: 100V; Temperature Coefficient: ± 10ppm/°C; Value: 3K16; Supplier 1: Farnell; Supplier Part Number 1: 1140858RL; Tolerance: ± 0.1%; Power: 150mW; Package: 0805 [2012 Metric]; Part Type: Thin Film; ComponentLink1Description: Datasheet; ComponentLink1URL: http://www.farnell.com/datasheets/2060946.pdf; Mounting: SMD
footprint RESC2012N (Chip Resistor, Body 2.0x1.3mm, IPC Medium Density)
pins: 1, 2
1 alternate drawing of the same symbol

## RN73C2A17K8BTDF
designator R?, comment 17K8
RES 17K8, ±0.1%, 100mW, 100V, 0805 [2012 Metric], Thin Film; Manufacturer: TE CONNECTIVITY; Manufacturer Part Number: RN73C2A17K8BTDF; Temperature Coefficient: ± 10ppm/°C; Value: 17K8; Supplier 1: Farnell; Supplier Part Number 1: 1160207; Tolerance: ± 0.1%; Power: 100mW; Voltage: 100V; Package: 0805 [2012 Metric]; Part Type: Thin Film; ComponentLink1Description: Datasheet; ComponentLink1URL: http://www.farnell.com/datasheets/2710384.pdf; Mounting: SMD
footprint RESC2012N (Chip Resistor, Body 2.0x1.3mm, IPC Medium Density)
pins: 1, 2
1 alternate drawing of the same symbol

## RN73C2A23K7BTDF
designator R?, comment 23K7
RES 23K7, ±0.1%, 100mW, 100V, 0805 [2012 Metric], Thin Film; Manufacturer: TE CONNECTIVITY; Manufacturer Part Number: RN73C2A23K7BTDF; Temperature Coefficient: ± 10ppm/°C; Value: 23K7; Supplier 1: Farnell; Supplier Part Number 1: 1140952; Tolerance: ± 0.1%; Power: 100mW; Voltage: 100V; Package: 0805 [2012 Metric]; Part Type: Thin Film; ComponentLink1Description: Datasheet; ComponentLink1URL: http://www.farnell.com/datasheets/1468317.pdf; Mounting: SMD
footprint RESC2012N (Chip Resistor, Body 2.0x1.3mm, IPC Medium Density)
pins: 1, 2
1 alternate drawing of the same symbol

## RN73C2A66K5BTDF
designator R?, comment 66K5
RES 66K5, ±0.1%, 100mW, 100V, 0805 [2012 Metric], Thin Film; Manufacturer: TE CONNECTIVITY; Manufacturer Part Number: RN73C2A66K5BTDF; Temperature Coefficient: ± 10ppm/°C; Value: 66K5; Supplier 1: Farnell; Supplier Part Number 1: 1141000; Tolerance: ± 0.1%; Power: 100mW; Voltage: 100V; Package: 0805 [2012 Metric]; Part Type: Thin Film; ComponentLink1Description: Datasheet; ComponentLink1URL: http://www.farnell.com/datasheets/1468317.pdf; Mounting: SMD
footprint RESC2012N (Chip Resistor, Body 2.0x1.3mm, IPC Medium Density)
pins: 1, 2
1 alternate drawing of the same symbol

## RN73R2BTTD4700D25
designator R?, comment 470R
RES 470R, ±0.5%, 125mW, 200V, 1206 [3216 Metric], Thin Film; Manufacturer: KOA Speer; Manufacturer Part Number: RN73R2BTTD4700D25; Temperature Coefficient: ± 25ppm/°C; Value: 470R; Supplier 1: Mouser; Supplier Part Number 1: 660-RN73R2BTD4700D25; Tolerance: ± 0.5%; Power: 125mW; Voltage: 200V; Package: 1206 [3216 Metric]; Part Type: Thin Film; ComponentLink1Description: Datasheet; ComponentLink1URL: https://eu.mouser.com/datasheet/2/219/RN73R-1840156.pdf; Mounting: SMD
footprint RESC3216N (Chip Resistor, Body 3.2x1.6mm, IPC Medium Density)
pins: 1, 2
1 alternate drawing of the same symbol

## Template RES 0603 [1608 Metric]
designator R?
RES 1K, ±1%, 100mW, 75V, 0603 [1608 Metric], Thick Film; Tolerance: ± 1%; Power: 100mW; Voltage: 75V; Package: 0603 [1608 Metric]; Part Type: Thick Film; ComponentLink1Description: Datasheet; Mounting: SMD
footprint RESC1608N (Chip Resistor, Body 1.6x0.8mm, IPC Medium Density)
pins: 1, 2
1 alternate drawing of the same symbol

## Template RES 0805 [2012 Metric]
designator R?
RES 1K, ±1%, 125mW, 150V, 0805 [2012 Metric], Thick Film; Tolerance: ± 1%; Power: 125mW; Voltage: 150V; Package: 0805 [2012 Metric]; Part Type: Thick Film; ComponentLink1Description: Datasheet; Mounting: SMD
footprint RESC2012N (Chip Resistor, Body 2.0x1.3mm, IPC Medium Density)
pins: 1, 2
1 alternate drawing of the same symbol

## Template RES 1206 [3216 metric]
designator R?
RES 1K, ±1%, 250mW, 200V, 1206 [3216 Metric], Thick Film; Tolerance: ± 1%; Power: 250mW; Voltage: 200V; Package: 1206 [3216 Metric]; Part Type: Thick Film; ComponentLink1Description: Datasheet; Mounting: SMD
footprint RESC3216N (Chip Resistor, Body 3.2x1.6mm, IPC Medium Density)
pins: 1, 2
1 alternate drawing of the same symbol

## WR06X10R0FTL
designator R?, comment 10R
RES 10R, ±1%, 100mW, 75V, 0603 [1608 Metric], Thick Film; Manufacturer: WALSIN; Manufacturer Part Number: WR06X10R0FTL; Temperature Coefficient: -200ppm/°C to +400ppm/°C; Value: 10R; Supplier 1: Farnell; Supplier Part Number 1: 2502394; Tolerance: ± 1%; Power: 100mW; Voltage: 75V; Package: 0603 [1608 Metric]; Part Type: Thick Film; ComponentLink1Description: Datasheet; ComponentLink1URL: http://www.farnell.com/datasheets/1960319.pdf; Mounting: SMD
footprint RESC1608N (Chip Resistor, Body 1.6x0.8mm, IPC Medium Density)
pins: 1, 2
1 alternate drawing of the same symbol

## WR06X183 JTL
designator R?, comment 18K
RES 18K, ±5%, 100mW, 75V, 0603 [1608 Metric], Thick Film; Manufacturer: WALSIN; Manufacturer Part Number: WR06X183 JTL; Temperature Coefficient: ± 100ppm/K; Value: 18K; Supplier 1: Farnell; Supplier Part Number 1: 2670676; Tolerance: ± 5%; Power: 100mW; Voltage: 75V; Package: 0603 [1608 Metric]; Part Type: Thick Film; ComponentLink1Description: Datasheet; ComponentLink1URL: http://www.farnell.com/datasheets/1960319.pdf; Mounting: SMD
footprint RESC1608N (Chip Resistor, Body 1.6x0.8mm, IPC Medium Density)
pins: 1, 2
1 alternate drawing of the same symbol

## WR06X1652FTL
designator R?, comment 16K5
RES 16K5, ±1%, 100mW, 75V, 0603 [1608 Metric], Thick Film; Manufacturer: WALSIN; Manufacturer Part Number: WR06X1652FTL; Temperature Coefficient: ± 100ppm/°C; Value: 16K5; Supplier 1: Farnell; Supplier Part Number 1: 2670656; Tolerance: ± 1%; Power: 100mW; Voltage: 75V; Package: 0603 [1608 Metric]; Part Type: Thick Film; ComponentLink1Description: Datasheet; ComponentLink1URL: http://www.farnell.com/datasheets/1960319.pdf; Mounting: SMD
footprint RESC1608N (Chip Resistor, Body 1.6x0.8mm, IPC Medium Density)
pins: 1, 2
1 alternate drawing of the same symbol

## WR06X3742FTL
designator R?, comment 37K4
RES 37K4, ±1%, 100mW, 75V, 0603 [1608 Metric], Thick Film; Manufacturer: WALSIN; Manufacturer Part Number: WR06X3742FTL; Temperature Coefficient: ± 100ppm/°C; Value: 37K4; Supplier 1: Farnell; Supplier Part Number 1: 2670780; Tolerance: ± 1%; Power: 100mW; Voltage: 75V; Package: 0603 [1608 Metric]; Part Type: Thick Film; ComponentLink1Description: Datasheet; ComponentLink1URL: http://www.farnell.com/datasheets/1960319.pdf; Mounting: SMD
footprint RESC1608N (Chip Resistor, Body 1.6x0.8mm, IPC Medium Density)
pins: 1, 2
1 alternate drawing of the same symbol

## WR06X9100FTL
designator R?, comment 910R
RES 910R, ±1%, 100mW, 75V, 0603 [1608 Metric], Thick Film; Manufacturer: WALSIN; Manufacturer Part Number: WR06X9100FTL; Temperature Coefficient: ± 100ppm/°C; Value: 910R; Supplier 1: Farnell; Supplier Part Number 1: 2670917; Tolerance: ± 1%; Power: 100mW; Voltage: 75V; Package: 0603 [1608 Metric]; Part Type: Thick Film; ComponentLink1Description: Datasheet; ComponentLink1URL: http://www.farnell.com/datasheets/1960319.pdf; Mounting: SMD
footprint RESC1608N (Chip Resistor, Body 1.6x0.8mm, IPC Medium Density)
pins: 1, 2
1 alternate drawing of the same symbol

## WR08W3R30FTL
designator R?, comment 3K3
RES 3K3, ±1%, 125mW, 150V, 0805 [2012 Metric], Thick Film; Manufacturer: WALSIN; Manufacturer Part Number: WR08W3R30FTL; Temperature Coefficient: ± 200ppm/K; Value: 3K3; Supplier 1: Farnell; Supplier Part Number 1: 2668290; Tolerance: ± 1%; Power: 125mW; Voltage: 150V; Package: 0805 [2012 Metric]; Part Type: Thick Film; ComponentLink1Description: Datasheet; ComponentLink1URL: http://www.farnell.com/datasheets/1960319.pdf; Mounting: SMD
footprint RESC2012N (Chip Resistor, Body 2.0x1.3mm, IPC Medium Density)
pins: 1, 2
1 alternate drawing of the same symbol